# EAGLE library part TLC2272CP (library TLC2272CP)
OPERATIONAL AMPLIFIER
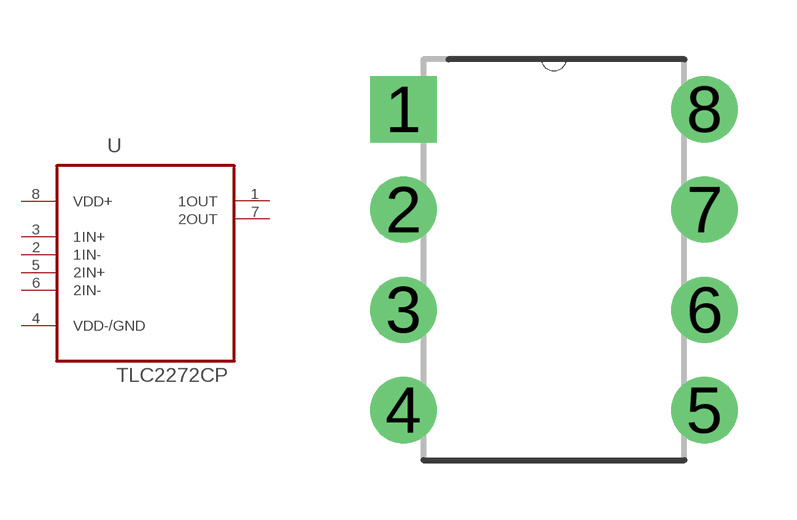
[diagram p0: symbol with the pads of DIP254P762X508-8; footprint DIP254P762X508-8]

Designator prefix U

## TLC2272CP (Availability: Unavailable; Description: Dual Low-Noise Rail-To-Rail Operational Amplifier 8-PDIP 0 to 70; MF: Texas Instruments; MP: TLC2272CP; Package: PDIP-8 Texas Instruments; Price: None)  [DIP254P762X508-8]
1  1OUT  out
2  1IN-  in
3  1IN+  in
4  VDD-/GND  pas
5  2IN+  in
6  2IN-  in
7  2OUT  out
8  VDD+  pwr

## Footprint DIP254P762X508-8 (pad centres in mm)
drill 1.118 square: 1 -7.62,7.62
drill 1.118: 2 -7.62,5.08; 3 -7.62,2.54; 4 -7.62,0; 5 0,0; 6 0,2.54; 7 0,5.08; 8 0,7.62